# Altium footprint library WS-PBTV.PcbLib: 1 footprints
Each footprint in its own frame and in the unit in brackets; x right, y up, seen from the top. Pads: shape width x height; smd on the part's side, far side on the other; paste and mask are expansions set on the pad; w line width, h text height; cw(c..) or ccw(c..) is an arc to the next point about the centre after c.
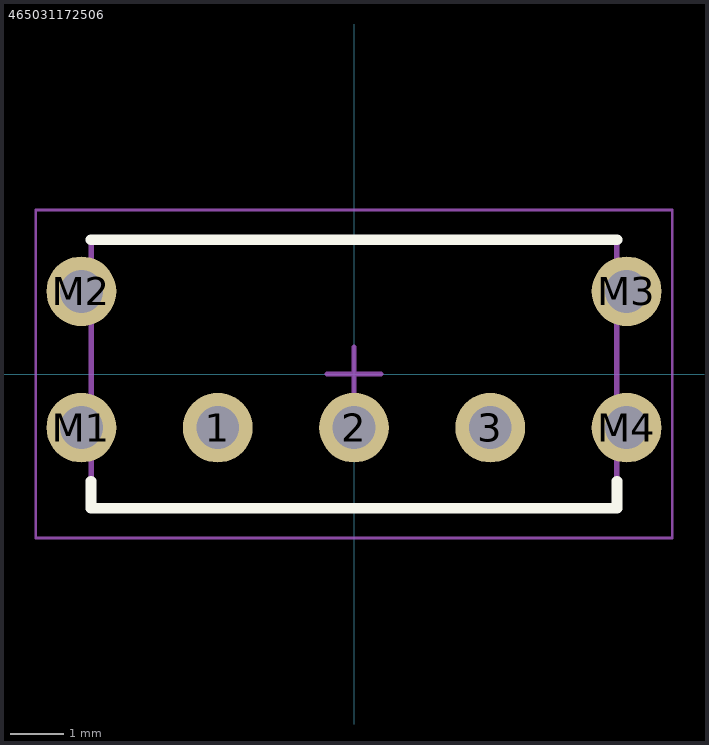
[diagram p0: the footprint, top view; thin cyan lines are the x and y axes]

## 465031172506 [mm] "Push Button Switch, Right angle type, THT version"
height 18.5
pads (7):
  round 1.3 hole 0.8: 1(-2.54,-1) 2(0,-1) 3(2.54,-1) M1(-5.08,-1) M2(-5.08,1.54) M3(5.08,1.54) M4(5.08,-1)
Top Overlay:
  lines w0.2: -4.9,-2 -4.9,-2.5 4.9,-2.5 4.9,-2 ; -4.9,2.5 4.9,2.5
Top Assembly:
  lines w0.1: -4.9,-2.5 -4.9,2.5 4.9,2.5 4.9,-2.5 -4.9,-2.5
Top Designator:
  text ".Designator" at -3.647,-0.357 h1
Top 3D Body:
  lines w0.1: -4.9,-2.5 -4.9,2.5 4.9,2.5 4.9,-2.5 -4.9,-2.5
Top Courtyard:
  lines w0.05: -5.93,-3.057 -5.93,3.057 5.93,3.057 5.93,-3.057 -5.93,-3.057
Top Component Center:
  lines w0.1: -0.5,0 0.5,0 ; 0,-0.5 0,0.5
3D body "465031172506.stp": height 18.55, standoff -3.25, extent -5.585,-2.94 5.585,2.857